# Altium schematic symbol library LM317.Schlib: 1 symbol
Pins are listed as number, name and electrical type; pins without a type are passive.

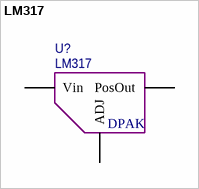
[diagram p0: symbol LM317]

## LM317
designator U?
pins: 1 ADJ, 3 Vin, 4 PosOut
text: DPAK